# EAGLE library part FFC-30P-0.5MM (library HyTechDevices)
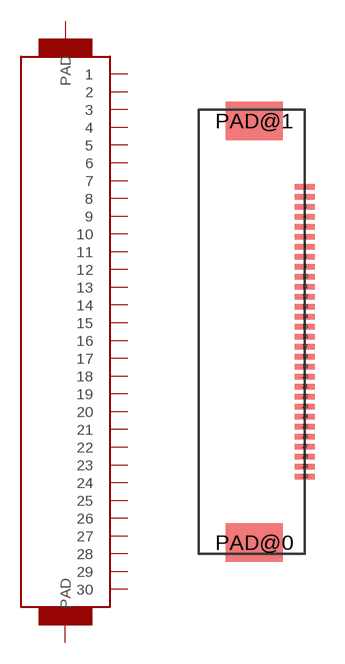
[diagram p83: symbol with the pads of FFC-30P-0.5MM; footprint FFC-30P-0.5MM]

Designator prefix -

## FFC-30P-0.5MM  [FFC-30P-0.5MM]
1  1
2  2
3  3
4  4
5  5
6  6
7  7
8  8
9  9
10  10
11  11
12  12
13  13
14  14
15  15
16  16
17  17
18  18
19  19
20  20
21  21
22  22
23  23
24  24
25  25
26  26
27  27
28  28
29  29
30  30
PAD@0  PAD
PAD@1  PAD

## Footprint FFC-30P-0.5MM (pad centres in mm)
smd 1 x 0.284: 1 0,7.5; 2 0,7; 3 0,6.5; 4 0,6; 5 0,5.5; 6 0,5; 7 0,4.5; 8 0,4; 9 0,3.5; 10 0,3; 11 0,2.5; 12 0,2; 13 0,1.5; 14 0,1; 15 0,0.5; 16 0,0; 17 0,-0.5; 18 0,-1; 19 0,-1.5; 20 0,-2; 21 0,-2.5; 22 0,-3; 23 0,-3.5; 24 0,-4; 25 0,-4.5; 26 0,-5; 27 0,-5.5; 28 0,-6; 29 0,-6.5; 30 0,-7
smd 2.85 x 1.905: PAD@0 -2.54,-10.302; PAD@1 -2.54,10.802